# Altium schematic symbol library SRP1038A-100M.SchLib: 1 symbol
Pins are listed as number, name and electrical type; pins without a type are passive.

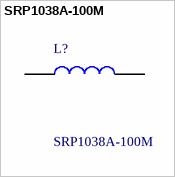
[diagram p0: symbol SRP1038A-100M]

## SRP1038A-100M
designator L?
Bourns SRP1038A Series Type SMD Shielded Wire-wound SMD Inductor with a Carbonyl Powder Core, 10 uH +/-20% Shielded 7.5A; Geometry.Height: 4mm; Mouser Part Number: 652-SRP1038A-100M; Mouser Price/Stock: https://www.mouser.co.uk/ProductDetail/Bourns/SRP1038A-100M?qs=7z%252BmIopC6%2FJQpoKC11SVQA%3D%3D; Manufacturer_Name: Bourns; Manufacturer_Part_Number: SRP1038A-100M; Datasheet Link: https://www.bourns.com/docs/Product-Datasheets/SRP1038A.pdf
footprint INDPM110100X400N
pins: 1, 2